# Altium schematic symbol library stm32f413vgt6.SchLib: 1 symbol
Pins are listed as number, name and electrical type; pins without a type are passive.

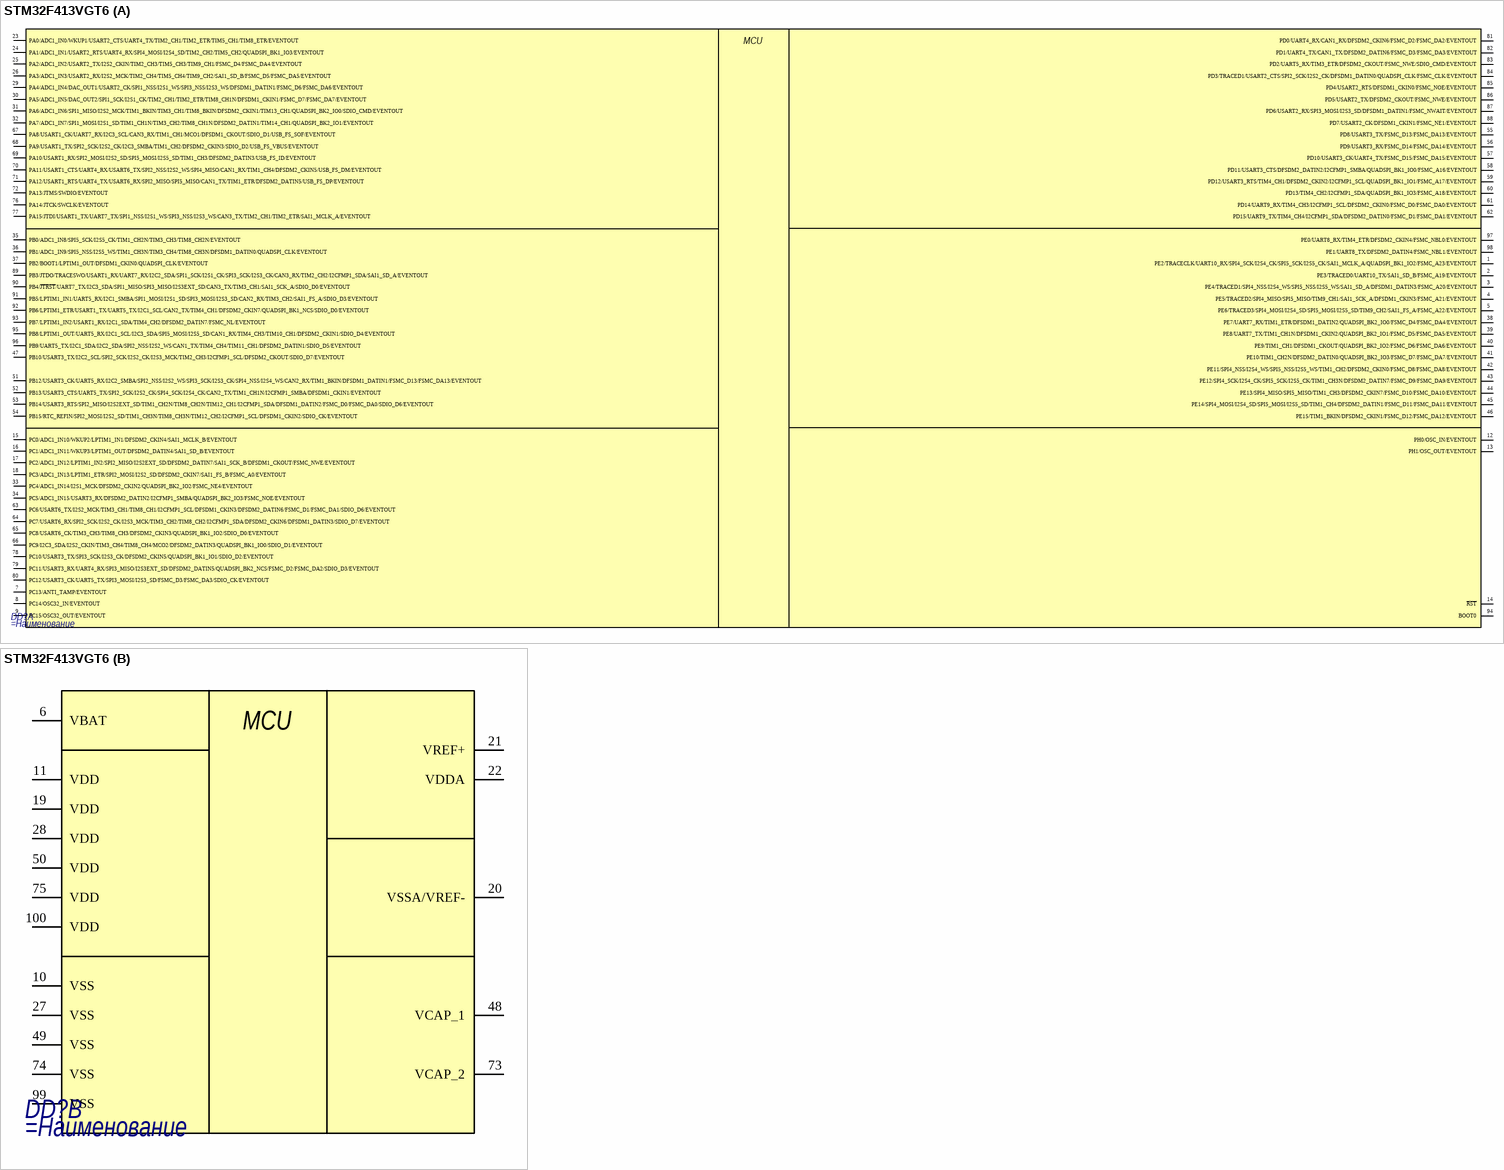
[diagram p0: symbol STM32F413VGT6]

## STM32F413VGT6
designator DD?
=Описание
part A pins: 1 PE2/TRACECLK/UART10_RX/SPI4_SCK/I2S4_CK/SPI5_SCK/I2S5_CK/SAI1_MCLK_A/QUADSPI_BK1_IO2/FSMC_A23/EVENTOUT, 2 PE3/TRACED0/UART10_TX/SAI1_SD_B/FSMC_A19/EVENTOUT, 3 PE4/TRACED1/SPI4_NSS/I2S4_WS/SPI5_NSS/I2S5_WS/SAI1_SD_A/DFSDM1_DATIN3/FSMC_A20/EVENTOUT, 4 PE5/TRACED2/SPI4_MISO/SPI5_MISO/TIM9_CH1/SAI1_SCK_A/DFSDM1_CKIN3/FSMC_A21/EVENTOUT, 5 PE6/TRACED3/SPI4_MOSI/I2S4_SD/SPI5_MOSI/I2S5_SD/TIM9_CH2/SAI1_FS_A/FSMC_A22/EVENTOUT, 7 PC13/ANTI_TAMP/EVENTOUT, 8 PC14/OSC32_IN/EVENTOUT, 9 PC15/OSC32_OUT/EVENTOUT, 12 PH0/OSC_IN/EVENTOUT, 13 PH1/OSC_OUT/EVENTOUT, 14 ~{RST}, 15 PC0/ADC1_IN10/WKUP2/LPTIM1_IN1/DFSDM2_CKIN4/SAI1_MCLK_B/EVENTOUT, 16 PC1/ADC1_IN11/WKUP3/LPTIM1_OUT/DFSDM2_DATIN4/SAI1_SD_B/EVENTOUT, 17 PC2/ADC1_IN12/LPTIM1_IN2/SPI2_MISO/I2S2EXT_SD/DFSDM2_DATIN7/SAI1_SCK_B/DFSDM1_CKOUT/FSMC_NWE/EVENTOUT, 18 PC3/ADC1_IN13/LPTIM1_ETR/SPI2_MOSI/I2S2_SD/DFSDM2_CKIN7/SAI1_FS_B/FSMC_A0/EVENTOUT, 23 PA0/ADC1_IN0/WKUP1/USART2_CTS/UART4_TX/TIM2_CH1/TIM2_ETR/TIM5_CH1/TIM8_ETR/EVENTOUT, 24 PA1/ADC1_IN1/USART2_RTS/UART4_RX/SPI4_MOSI/I2S4_SD/TIM2_CH2/TIM5_CH2/QUADSPI_BK1_IO3/EVENTOUT, 25 PA2/ADC1_IN2/USART2_TX/I2S2_CKIN/TIM2_CH3/TIM5_CH3/TIM9_CH1/FSMC_D4/FSMC_DA4/EVENTOUT, 26 PA3/ADC1_IN3/USART2_RX/I2S2_MCK/TIM2_CH4/TIM5_CH4/TIM9_CH2/SAI1_SD_B/FSMC_D5/FSMC_DA5/EVENTOUT, 29 PA4/ADC1_IN4/DAC_OUT1/USART2_CK/SPI1_NSS/I2S1_WS/SPI3_NSS/I2S3_WS/DFSDM1_DATIN1/FSMC_D6/FSMC_DA6/EVENTOUT, 30 PA5/ADC1_IN5/DAC_OUT2/SPI1_SCK/I2S1_CK/TIM2_CH1/TIM2_ETR/TIM8_CH1N/DFSDM1_CKIN1/FSMC_D7/FSMC_DA7/EVENTOUT, 31 PA6/ADC1_IN6/SPI1_MISO/I2S2_MCK/TIM1_BKIN/TIM3_CH1/TIM8_BKIN/DFSDM2_CKIN1/TIM13_CH1/QUADSPI_BK2_IO0/SDIO_CMD/EVENTOUT, 32 PA7/ADC1_IN7/SPI1_MOSI/I2S1_SD/TIM1_CH1N/TIM3_CH2/TIM8_CH1N/DFSDM2_DATIN1/TIM14_CH1/QUADSPI_BK2_IO1/EVENTOUT, 33 PC4/ADC1_IN14/I2S1_MCK/DFSDM2_CKIN2/QUADSPI_BK2_IO2/FSMC_NE4/EVENTOUT, 34 PC5/ADC1_IN15/USART3_RX/DFSDM2_DATIN2/I2CFMP1_SMBA/QUADSPI_BK2_IO3/FSMC_NOE/EVENTOUT, 35 PB0/ADC1_IN8/SPI5_SCK/I2S5_CK/TIM1_CH2N/TIM3_CH3/TIM8_CH2N/EVENTOUT, 36 PB1/ADC1_IN9/SPI5_NSS/I2S5_WS/TIM1_CH3N/TIM3_CH4/TIM8_CH3N/DFSDM1_DATIN0/QUADSPI_CLK/EVENTOUT, 37 PB2/BOOT1/LPTIM1_OUT/DFSDM1_CKIN0/QUADSPI_CLK/EVENTOUT, 38 PE7/UART7_RX/TIM1_ETR/DFSDM1_DATIN2/QUADSPI_BK2_IO0/FSMC_D4/FSMC_DA4/EVENTOUT, 39 PE8/UART7_TX/TIM1_CH1N/DFSDM1_CKIN2/QUADSPI_BK2_IO1/FSMC_D5/FSMC_DA5/EVENTOUT, 40 PE9/TIM1_CH1/DFSDM1_CKOUT/QUADSPI_BK2_IO2/FSMC_D6/FSMC_DA6/EVENTOUT, 41 PE10/TIM1_CH2N/DFSDM2_DATIN0/QUADSPI_BK2_IO3/FSMC_D7/FSMC_DA7/EVENTOUT, 42 PE11/SPI4_NSS/I2S4_WS/SPI5_NSS/I2S5_WS/TIM1_CH2/DFSDM2_CKIN0/FSMC_D8/FSMC_DA8/EVENTOUT, 43 PE12/SPI4_SCK/I2S4_CK/SPI5_SCK/I2S5_CK/TIM1_CH3N/DFSDM2_DATIN7/FSMC_D9/FSMC_DA9/EVENTOUT, 44 PE13/SPI4_MISO/SPI5_MISO/TIM1_CH3/DFSDM2_CKIN7/FSMC_D10/FSMC_DA10/EVENTOUT, 45 PE14/SPI4_MOSI/I2S4_SD/SPI5_MOSI/I2S5_SD/TIM1_CH4/DFSDM2_DATIN1/FSMC_D11/FSMC_DA11/EVENTOUT, 46 PE15/TIM1_BKIN/DFSDM2_CKIN1/FSMC_D12/FSMC_DA12/EVENTOUT, 47 PB10/USART3_TX/I2C2_SCL/SPI2_SCK/I2S2_CK/I2S3_MCK/TIM2_CH3/I2CFMP1_SCL/DFSDM2_CKOUT/SDIO_D7/EVENTOUT, 51 PB12/USART3_CK/UART5_RX/I2C2_SMBA/SPI2_NSS/I2S2_WS/SPI3_SCK/I2S3_CK/SPI4_NSS/I2S4_WS/CAN2_RX/TIM1_BKIN/DFSDM1_DATIN1/FSMC_D13/FSMC_DA13/EVENTOUT, 52 PB13/USART3_CTS/UART5_TX/SPI2_SCK/I2S2_CK/SPI4_SCK/I2S4_CK/CAN2_TX/TIM1_CH1N/I2CFMP1_SMBA/DFSDM1_CKIN1/EVENTOUT, 53 PB14/USART3_RTS/SPI2_MISO/I2S2EXT_SD/TIM1_CH2N/TIM8_CH2N/TIM12_CH1/I2CFMP1_SDA/DFSDM1_DATIN2/FSMC_D0/FSMC_DA0/SDIO_D6/EVENTOUT, 54 PB15/RTC_REFIN/SPI2_MOSI/I2S2_SD/TIM1_CH3N/TIM8_CH3N/TIM12_CH2/I2CFMP1_SCL/DFSDM1_CKIN2/SDIO_CK/EVENTOUT, 55 PD8/USART3_TX/FSMC_D13/FSMC_DA13/EVENTOUT, 56 PD9/USART3_RX/FSMC_D14/FSMC_DA14/EVENTOUT, 57 PD10/USART3_CK/UART4_TX/FSMC_D15/FSMC_DA15/EVENTOUT, 58 PD11/USART3_CTS/DFSDM2_DATIN2/I2CFMP1_SMBA/QUADSPI_BK1_IO0/FSMC_A16/EVENTOUT, 59 PD12/USART3_RTS/TIM4_CH1/DFSDM2_CKIN2/I2CFMP1_SCL/QUADSPI_BK1_IO1/FSMC_A17/EVENTOUT, 60 PD13/TIM4_CH2/I2CFMP1_SDA/QUADSPI_BK1_IO3/FSMC_A18/EVENTOUT, 61 PD14/UART9_RX/TIM4_CH3/I2CFMP1_SCL/DFSDM2_CKIN0/FSMC_D0/FSMC_DA0/EVENTOUT, 62 PD15/UART9_TX/TIM4_CH4/I2CFMP1_SDA/DFSDM2_DATIN0/FSMC_D1/FSMC_DA1/EVENTOUT, 63 PC6/USART6_TX/I2S2_MCK/TIM3_CH1/TIM8_CH1/I2CFMP1_SCL/DFSDM1_CKIN3/DFSDM2_DATIN6/FSMC_D1/FSMC_DA1/SDIO_D6/EVENTOUT, 64 PC7/USART6_RX/SPI2_SCK/I2S2_CK/I2S3_MCK/TIM3_CH2/TIM8_CH2/I2CFMP1_SDA/DFSDM2_CKIN6/DFSDM1_DATIN3/SDIO_D7/EVENTOUT, 65 PC8/USART6_CK/TIM3_CH3/TIM8_CH3/DFSDM2_CKIN3/QUADSPI_BK1_IO2/SDIO_D0/EVENTOUT, 66 PC9/I2C3_SDA/I2S2_CKIN/TIM3_CH4/TIM8_CH4/MCO2/DFSDM2_DATIN3/QUADSPI_BK1_IO0/SDIO_D1/EVENTOUT, 67 PA8/USART1_CK/UART7_RX/I2C3_SCL/CAN3_RX/TIM1_CH1/MCO1/DFSDM1_CKOUT/SDIO_D1/USB_FS_SOF/EVENTOUT, 68 PA9/USART1_TX/SPI2_SCK/I2S2_CK/I2C3_SMBA/TIM1_CH2/DFSDM2_CKIN3/SDIO_D2/USB_FS_VBUS/EVENTOUT, 69 PA10/USART1_RX/SPI2_MOSI/I2S2_SD/SPI5_MOSI/I2S5_SD/TIM1_CH3/DFSDM2_DATIN3/USB_FS_ID/EVENTOUT, 70 PA11/USART1_CTS/UART4_RX/USART6_TX/SPI2_NSS/I2S2_WS/SPI4_MISO/CAN1_RX/TIM1_CH4/DFSDM2_CKIN5/USB_FS_DM/EVENTOUT, 71 PA12/USART1_RTS/UART4_TX/USART6_RX/SPI2_MISO/SPI5_MISO/CAN1_TX/TIM1_ETR/DFSDM2_DATIN5/USB_FS_DP/EVENTOUT, 72 PA13/JTMS/SWDIO/EVENTOUT, 76 PA14/JTCK/SWCLK/EVENTOUT, 77 PA15/JTDI/USART1_TX/UART7_TX/SPI1_NSS/I2S1_WS/SPI3_NSS/I2S3_WS/CAN3_TX/TIM2_CH1/TIM2_ETR/SAI1_MCLK_A/EVENTOUT, 78 PC10/USART3_TX/SPI3_SCK/I2S3_CK/DFSDM2_CKIN5/QUADSPI_BK1_IO1/SDIO_D2/EVENTOUT, 79 PC11/USART3_RX/UART4_RX/SPI3_MISO/I2S3EXT_SD/DFSDM2_DATIN5/QUADSPI_BK2_NCS/FSMC_D2/FSMC_DA2/SDIO_D3/EVENTOUT, 80 PC12/USART3_CK/UART5_TX/SPI3_MOSI/I2S3_SD/FSMC_D3/FSMC_DA3/SDIO_CK/EVENTOUT, 81 PD0/UART4_RX/CAN1_RX/DFSDM2_CKIN6/FSMC_D2/FSMC_DA2/EVENTOUT, 82 PD1/UART4_TX/CAN1_TX/DFSDM2_DATIN6/FSMC_D3/FSMC_DA3/EVENTOUT, 83 PD2/UART5_RX/TIM3_ETR/DFSDM2_CKOUT/FSMC_NWE/SDIO_CMD/EVENTOUT, 84 PD3/TRACED1/USART2_CTS/SPI2_SCK/I2S2_CK/DFSDM1_DATIN0/QUADSPI_CLK/FSMC_CLK/EVENTOUT, 85 PD4/USART2_RTS/DFSDM1_CKIN0/FSMC_NOE/EVENTOUT, 86 PD5/USART2_TX/DFSDM2_CKOUT/FSMC_NWE/EVENTOUT, 87 PD6/USART2_RX/SPI3_MOSI/I2S3_SD/DFSDM1_DATIN1/FSMC_NWAIT/EVENTOUT, 88 PD7/USART2_CK/DFSDM1_CKIN1/FSMC_NE1/EVENTOUT, 89 PB3/JTDO/TRACESWO/USART1_RX/UART7_RX/I2C2_SDA/SPI1_SCK/I2S1_CK/SPI3_SCK/I2S3_CK/CAN3_RX/TIM2_CH2/I2CFMP1_SDA/SAI1_SD_A/EVENTOUT, 90 PB4/~{JTRST}/UART7_TX/I2C3_SDA/SPI1_MISO/SPI3_MISO/I2S3EXT_SD/CAN3_TX/TIM3_CH1/SAI1_SCK_A/SDIO_D0/EVENTOUT, 91 PB5/LPTIM1_IN1/UART5_RX/I2C1_SMBA/SPI1_MOSI/I2S1_SD/SPI3_MOSI/I2S3_SD/CAN2_RX/TIM3_CH2/SAI1_FS_A/SDIO_D3/EVENTOUT, 92 PB6/LPTIM1_ETR/USART1_TX/UART5_TX/I2C1_SCL/CAN2_TX/TIM4_CH1/DFSDM2_CKIN7/QUADSPI_BK1_NCS/SDIO_D0/EVENTOUT, 93 PB7/LPTIM1_IN2/USART1_RX/I2C1_SDA/TIM4_CH2/DFSDM2_DATIN7/FSMC_NL/EVENTOUT, 94 BOOT0, 95 PB8/LPTIM1_OUT/UART5_RX/I2C1_SCL/I2C3_SDA/SPI5_MOSI/I2S5_SD/CAN1_RX/TIM4_CH3/TIM10_CH1/DFSDM2_CKIN1/SDIO_D4/EVENTOUT, 96 PB9/UART5_TX/I2C1_SDA/I2C2_SDA/SPI2_NSS/I2S2_WS/CAN1_TX/TIM4_CH4/TIM11_CH1/DFSDM2_DATIN1/SDIO_D5/EVENTOUT, 97 PE0/UART8_RX/TIM4_ETR/DFSDM2_CKIN4/FSMC_NBL0/EVENTOUT, 98 PE1/UART8_TX/DFSDM2_DATIN4/FSMC_NBL1/EVENTOUT
part B pins: 6 VBAT, 10 VSS, 11 VDD, 19 VDD, 20 VSSA/VREF-, 21 VREF+, 22 VDDA, 27 VSS, 28 VDD, 48 VCAP_1, 49 VSS, 50 VDD, 73 VCAP_2, 74 VSS, 75 VDD, 99 VSS, 100 VDD
part A text: MCU
part B text: MCU